# EAGLE library part 80286-N (library micro-siemens)
MICROPROCESSOR/PERIPHERAL DEVICE
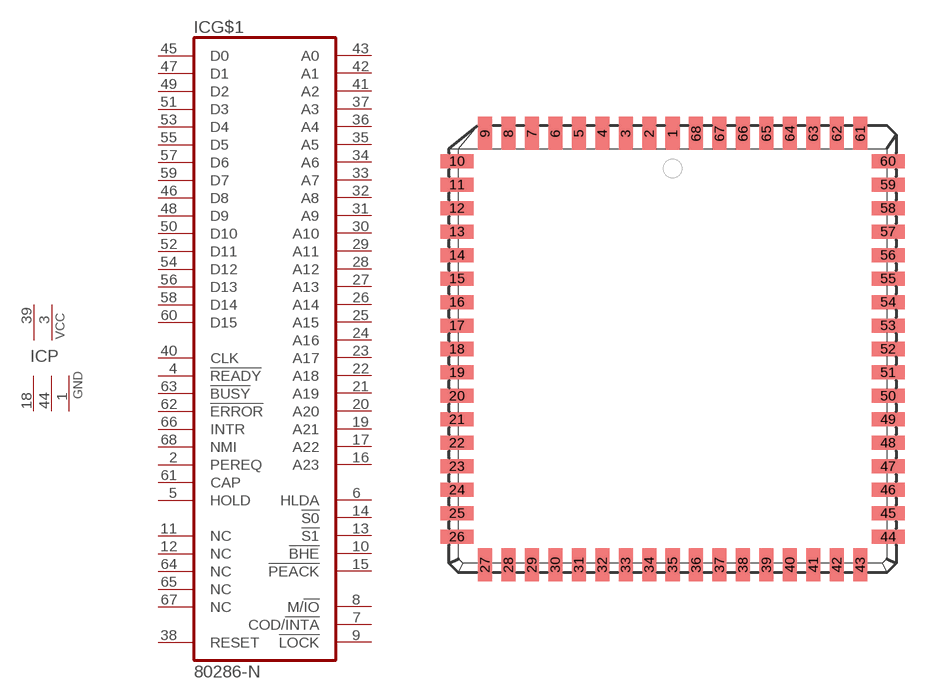
[diagram p7: symbol with the pads of PLCC68; footprint PLCC68]

Designator prefix IC; gates G$1=80286 P=2VCC3GND

## 80286-N (OC_FARNELL: unknown; OC_NEWARK: unknown)  [PLCC68]
1  P:GND  pwr
2  G$1:PEREQ  in
3  P:VCC  pwr
4  G$1:!READY  in
5  G$1:HOLD  in
6  G$1:HLDA  out
7  G$1:COD/!INTA  out
8  G$1:M/!IO  out
9  G$1:!LOCK  out
10  G$1:!BHE  out
11  G$1:NC  nc
12  G$1:NC  nc
13  G$1:!S1  out
14  G$1:!S0  out
15  G$1:!PEACK  out
16  G$1:A23  out
17  G$1:A22  out
18  P:GND  pwr
19  G$1:A21  out
20  G$1:A20  out
21  G$1:A19  out
22  G$1:A18  out
23  G$1:A17  out
24  G$1:A16  out
25  G$1:A15  out
26  G$1:A14  out
27  G$1:A13  out
28  G$1:A12  out
29  G$1:A11  out
30  G$1:A10  out
31  G$1:A9  out
32  G$1:A8  out
33  G$1:A7  out
34  G$1:A6  out
35  G$1:A5  out
36  G$1:A4  out
37  G$1:A3  out
38  G$1:RESET  in
39  P:VCC  pwr
40  G$1:CLK  in
41  G$1:A2  out
42  G$1:A1  out
43  G$1:A0  out
44  P:GND  pwr
45  G$1:D0
46  G$1:D8
47  G$1:D1
48  G$1:D9
49  G$1:D2
50  G$1:D10
51  G$1:D3
52  G$1:D11
53  G$1:D4
54  G$1:D12
55  G$1:D5
56  G$1:D13
57  G$1:D6
58  G$1:D14
59  G$1:D7
60  G$1:D15
61  G$1:CAP  in
62  G$1:!ERROR  in
63  G$1:!BUSY  in
64  G$1:NC  nc
65  G$1:NC  nc
66  G$1:INTR  in
67  G$1:NC  nc
68  G$1:NMI  in

## Footprint PLCC68 (pad centres in mm)
PLASTIC LEADED CHIP CARRIER square
smd 0.76 x 1.8: 1 0,11.67; 2 -1.27,11.67; 3 -2.54,11.67; 4 -3.81,11.67; 5 -5.08,11.67; 6 -6.35,11.67; 7 -7.62,11.67; 8 -8.89,11.67; 9 -10.16,11.67; 27 -10.16,-11.67; 28 -8.89,-11.67; 29 -7.62,-11.67; 30 -6.35,-11.67; 31 -5.08,-11.67; 32 -3.81,-11.67; 33 -2.54,-11.67; 34 -1.27,-11.67; 35 0,-11.67; 36 1.27,-11.67; 37 2.54,-11.67; 38 3.81,-11.67; 39 5.08,-11.67; 40 6.35,-11.67; 41 7.62,-11.67; 42 8.89,-11.67; 43 10.16,-11.67; 61 10.16,11.67; 62 8.89,11.67; 63 7.62,11.67; 64 6.35,11.67; 65 5.08,11.67; 66 3.81,11.67; 67 2.54,11.67; 68 1.27,11.67
smd 1.8 x 0.76: 10 -11.67,10.16; 11 -11.67,8.89; 12 -11.67,7.62; 13 -11.67,6.35; 14 -11.67,5.08; 15 -11.67,3.81; 16 -11.67,2.54; 17 -11.67,1.27; 18 -11.67,0; 19 -11.67,-1.27; 20 -11.67,-2.54; 21 -11.67,-3.81; 22 -11.67,-5.08; 23 -11.67,-6.35; 24 -11.67,-7.62; 25 -11.67,-8.89; 26 -11.67,-10.16; 44 11.67,-10.16; 45 11.67,-8.89; 46 11.67,-7.62; 47 11.67,-6.35; 48 11.67,-5.08; 49 11.67,-3.81; 50 11.67,-2.54; 51 11.67,-1.27; 52 11.67,0; 53 11.67,1.27; 54 11.67,2.54; 55 11.67,3.81; 56 11.67,5.08; 57 11.67,6.35; 58 11.67,7.62; 59 11.67,8.89; 60 11.67,10.16